# Altium footprint library Discrete_semiconductors.PcbLib: 49 footprints (part 4 of 4)
Each footprint in its own frame and in the unit in brackets; x right, y up, seen from the top. Pads: shape width x height; smd on the part's side, far side on the other; paste and mask are expansions set on the pad; w line width, h text height; cw(c..) or ccw(c..) is an arc to the next point about the centre after c.
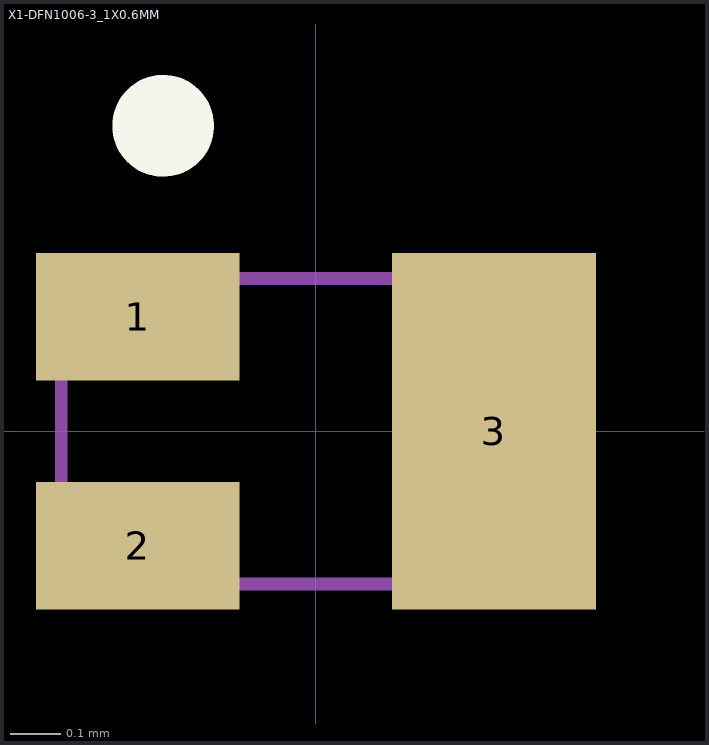
[diagram p3: the footprint, top view; thin cyan lines are the x and y axes]

## X1-DFN1006-3_1X0.6MM [mm] "UFDFN-3 / 20211220 /  E.Naranjo"
pads (3):
  rect 0.4x0.25 smd: 1(-0.35,0.225) 2(-0.35,-0.225)
  rect 0.4x0.7 smd: 3(0.35,0)
Top Overlay:
  circle w0.1: c-0.3,0.6 r0.05
Mechanical 1:
  lines w0.025: -0.5,-0.3 0.5,-0.3 0.5,0.3 -0.5,0.3 -0.5,-0.3
3D body "DMN1150UFB-7B--3DModel-STEP-1.STEP": height 0.51, standoff -0.02, extent -0.512,-0.299 0.488,0.301